# Altium footprint library Misc.PcbLib: 12 footprints
Each footprint in its own frame and in the unit in brackets; x right, y up, seen from the top. Pads: shape width x height; smd on the part's side, far side on the other; paste and mask are expansions set on the pad; w line width, h text height; cw(c..) or ccw(c..) is an arc to the next point about the centre after c.
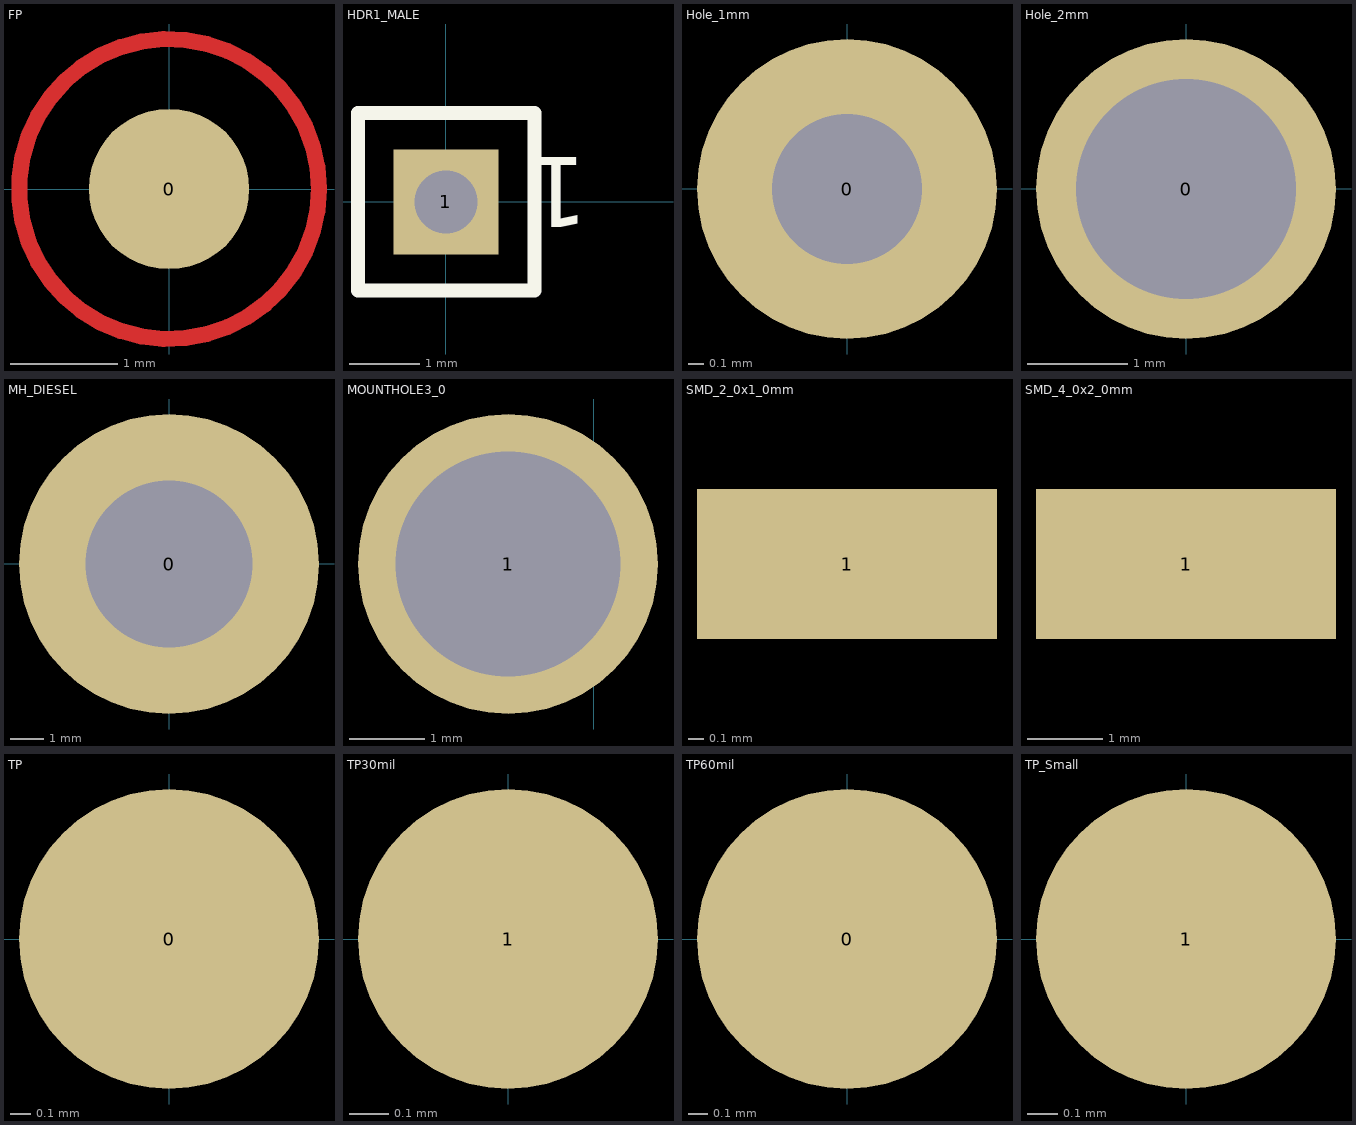
[diagram p0: the footprints below, top view; thin cyan lines are the x and y axes]

## FP [mm] "Fiducial point"
pads (1):
  round 1.5 smd paste-1 mask+0.8: 0(0,0)
Top Layer:
  circle w0.15: c0,0 r1.403

## HDR1_MALE [mm] "Connector; Header; 2x1 Position"
pads (1):
  rect 1.5x1.5 hole 0.9: 1(0,0)
Top Overlay:
  lines w0.2: -1.255,-1.27 -1.255,1.27 1.27,1.27 1.27,-1.27 -1.255,-1.27
  text "1" at 2.032,0.635 h1
Bottom Overlay:
  text "1" at 1.778,0.762 h1
Mechanical 13:
  text ".Designator" at -2.015,1.665 h0.5
Mechanical 15:
  lines w0.05: -1.255,-1.27 -1.255,1.27 1.27,1.27 1.27,-1.27 -1.255,-1.27

## Hole_1mm [mm] "Hole_1mm"
pads (1):
  round 2 hole 1: 0(0,0)

## Hole_2mm [mm] "Hole_2mm"
pads (1):
  round 3 hole 2.2: 0(0,0)

## MH_DIESEL [mm] "Mounting hole footprint for DIESEL ECU PCB"
pads (1):
  round 9 hole 5: 0(0,0)

## MOUNTHOLE3_0 [mm]
pads (1):
  round 4 hole 3: 1(-1.143,8.001)

## SMD_2_0x1_0mm [mm]
pads (1):
  rect 2x1 smd: 1(-2.54,-3.81)

## SMD_4_0x2_0mm [mm]
pads (1):
  rect 4x2 smd: 1(-2.54,-3.81)

## TP [mm] "Test point footprint"
pads (1):
  round 1.5 smd: 0(0,0)

## TP30mil [mil] "Test point footprint"
pads (1):
  round 30 smd: 1(0,0)

## TP60mil [mil] "Test point footprint"
pads (1):
  round 60 smd: 0(0,0)

## TP_Small [mm] "Test point footprint"
pads (1):
  round 1 smd paste+0 mask+0: 1(0,0)